# Altium footprint library CAP_3300uF_100V.PcbLib: 1 footprints
Each footprint in its own frame and in the unit in brackets; x right, y up, seen from the top. Pads: shape width x height; smd on the part's side, far side on the other; paste and mask are expansions set on the pad; w line width, h text height; cw(c..) or ccw(c..) is an arc to the next point about the centre after c.
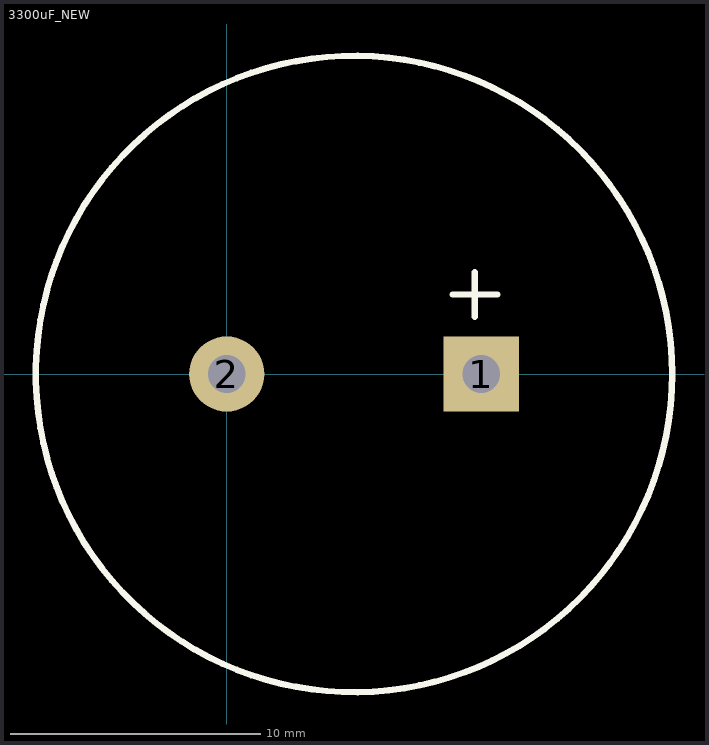
[diagram p0: the footprint, top view; thin cyan lines are the x and y axes]

## 3300uF_NEW [mm]
pads (2):
  rect 3x3 hole 1.5 square: 1(10.16,0)
  round 3 hole 1.5: 2(0,0)
Top Overlay:
  circle w0.254: c5.08,0 r12.7
  lines w0.254: 9.017,3.175 10.795,3.175 ; 9.906,2.286 9.906,4.064